# EAGLE library part DIP-SWITCH-8P (library FaBo-Switch)
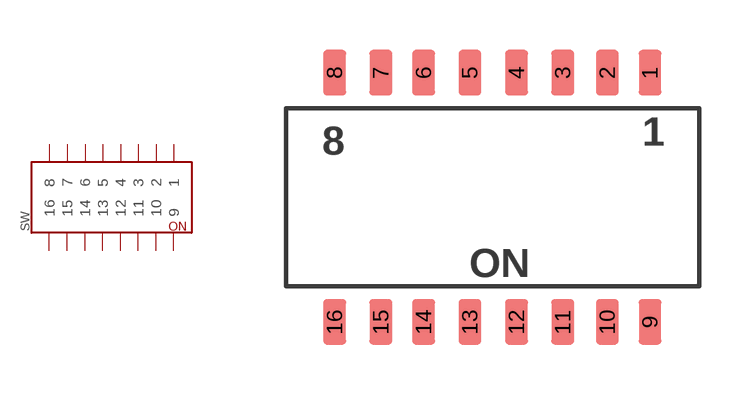
[diagram p3: symbol with the pads of CHS-08TB; footprint CHS-08TB]

Designator prefix SW

## DIP-SWITCH-8P  [CHS-08TB]
1  1  in
2  2  in
3  3  in
4  4  in
5  5  in
6  6  in
7  7  in
8  8  in
9  9
10  10
11  11
12  12
13  13
14  14
15  15
16  16

## Footprint CHS-08TB (pad centres in mm)
smd 0.635 x 1.27: 1 4.22,3; 2 3.02,3; 3 1.77,3; 4 0.47,3; 5 -0.84,3; 6 -2.14,3; 7 -3.34,3; 8 -4.64,3; 9 4.22,-4; 10 3.02,-4; 11 1.77,-4; 12 0.47,-4; 13 -0.84,-4; 14 -2.14,-4; 15 -3.34,-4; 16 -4.64,-4